# EAGLE library part POLOLU_DRV8801_CARRIER (library will)
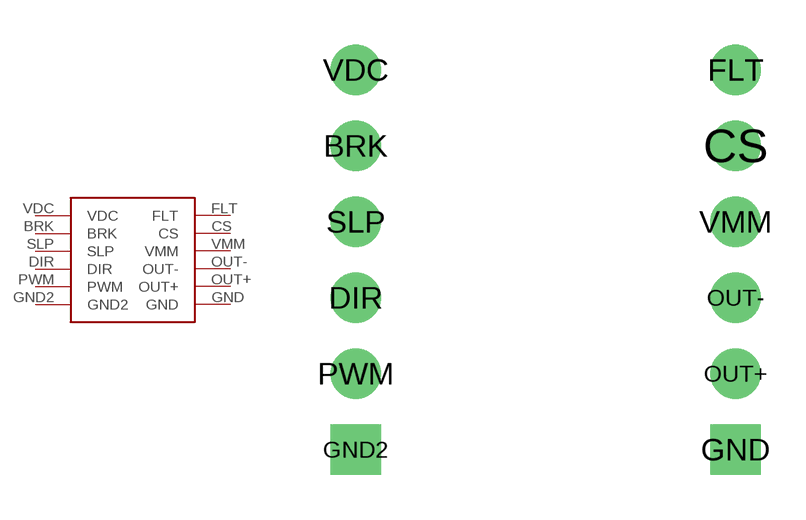
[diagram p2: symbol with the pads of POLOLU_DRV8801_CARRIER; footprint POLOLU_DRV8801_CARRIER]

Designator prefix -

## POLOLU_DRV8801_CARRIER  [POLOLU_DRV8801_CARRIER]
BRK  BRK
CS  CS
DIR  DIR
FLT  FLT
GND  GND
GND2  GND2
OUT+  OUT+
OUT-  OUT-
PWM  PWM
SLP  SLP
VDC  VDC
VMM  VMM

## Footprint POLOLU_DRV8801_CARRIER (pad centres in mm)
drill 0.8 pad 1.676: BRK -6.35,3.81; CS 6.35,3.81; DIR -6.35,-1.27; FLT 6.35,6.35; OUT+ 6.35,-3.81; OUT- 6.35,-1.27; PWM -6.35,-3.81; SLP -6.35,1.27; VDC -6.35,6.35; VMM 6.35,1.27
drill 0.8 pad 1.676 square: GND 6.35,-6.35; GND2 -6.35,-6.35